# Altium integrated library pin header.IntLib: 1 symbol
Pins are listed as number, name and electrical type; pins without a type are passive.

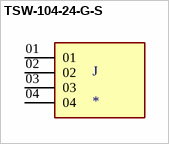
[diagram p0: symbol TSW-104-24-G-S]

## TSW-104-24-G-S
designator J
Connector Header Through Hole 4 position 0.100 (2.54mm); MP: TSW-104-24-G-S; MF: Samtec; Price: None; Availability: Unavailable; Package: None; Value: *; SnapEDA_Link: https://www.snapeda.com/parts/TSW-104-24-G-S/Samtec/view-part/3451889/?ref=snap
footprint SAMTEC_TSW-104-24-G-S
pins: 01, 02, 03, 04